# Altium schematic symbol library 1010030682.Schlib: 1 symbol
Pins are listed as number, name and electrical type; pins without a type are passive.

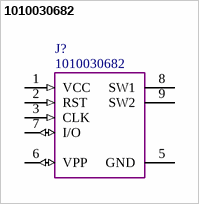
[diagram p0: symbol 1010030682]

## 1010030682
designator J?
SIM card connector
pins: 1 VCC (in), 2 RST (in), 3 CLK (in), 5 GND (power), 6 VPP (io), 7 I/O (io), 8 SW1, 9 SW2
2 alternate drawings of the same symbol